# EAGLE library part MGA-43328-BLKG (library Avago_By_element14_Batch_1)
GHz 29dBm High Linearity Wireless Data Power Amplifier
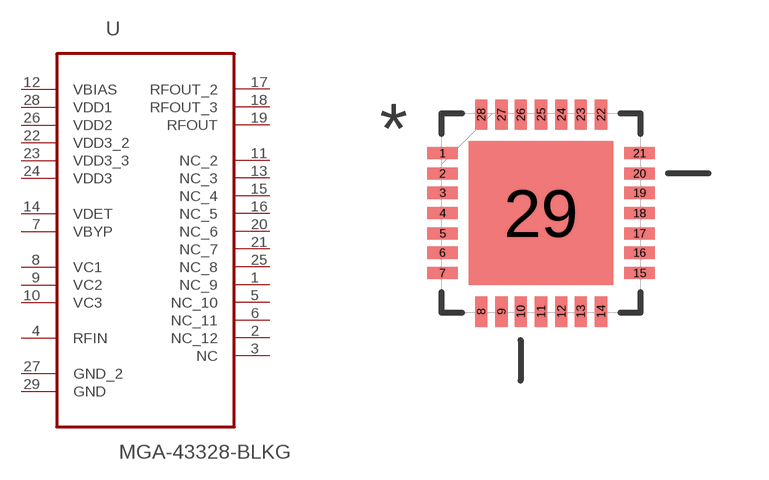
[diagram p20: symbol with the pads of QFN50P500X500X90-29N; footprint QFN50P500X500X90-29N]

Designator prefix U

## MGA-43328-BLKG (DESCRIPTION: GHz 29dBm High Linearity Wireless Data Power Amplifier; MPN: MGA-43328-BLKG; OC_FARNELL: 1865188; OC_NEWARK: 67R6315; PACKAGE: QFN-28; SUPPLIER: AVAGO TECHNOLOGIES)  [QFN50P500X500X90-29N]
1  NC_9  nc
2  NC_12  nc
3  NC  nc
4  RFIN  in
5  NC_10  nc
6  NC_11  nc
7  VBYP  in
8  VC1  in
9  VC2  in
10  VC3  in
11  NC_2  nc
12  VBIAS  pwr
13  NC_3  nc
14  VDET  pwr
15  NC_4  nc
16  NC_5  nc
17  RFOUT_2  out
18  RFOUT_3  out
19  RFOUT  out
20  NC_6  nc
21  NC_7  nc
22  VDD3_2  pwr
23  VDD3_3  pwr
24  VDD3  pwr
25  NC_8  nc
26  VDD2  pwr
27  GND_2  pas
28  VDD1  pwr
29  GND  pas

## Footprint QFN50P500X500X90-29N (pad centres in mm)
smd 0.762 x 0.305: 1 -2.464,1.499; 2 -2.464,0.991; 3 -2.464,0.508; 4 -2.464,0; 5 -2.464,-0.508; 6 -2.464,-0.991; 7 -2.464,-1.499; 15 2.464,-1.499; 16 2.464,-0.991; 17 2.464,-0.508; 18 2.464,0; 19 2.464,0.508; 20 2.464,0.991; 21 2.464,1.499
smd 0.305 x 0.762: 8 -1.499,-2.464; 9 -0.991,-2.464; 10 -0.508,-2.464; 11 0,-2.464; 12 0.508,-2.464; 13 0.991,-2.464; 14 1.499,-2.464; 22 1.499,2.464; 23 0.991,2.464; 24 0.508,2.464; 25 0,2.464; 26 -0.508,2.464; 27 -0.991,2.464; 28 -1.499,2.464
smd 3.607 x 3.607: 29 0,0